# EAGLE library part SUNHAYATO-USB-CK37 (library con-sunhayato-usb)
AXR30545 Plug (Board mounting type) B type Source: http://www.panasonic-electric-works.ch/home/www/catalogues/connector/download/en_ds_65201_0000.pdf
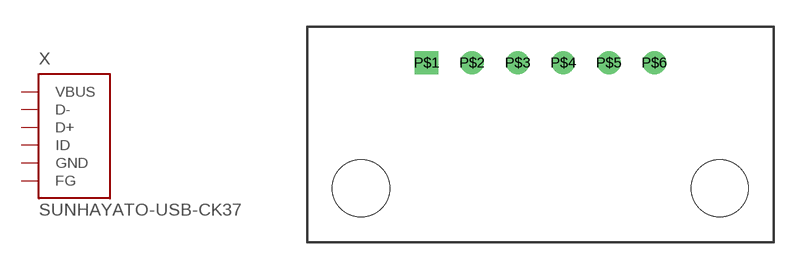
[diagram p0: symbol with the pads of SUNHAYATO-USB-CK37; footprint SUNHAYATO-USB-CK37]

Designator prefix X

## SUNHAYATO-USB-CK37 (MPN: AXR30545; OC_FARNELL: unknown; OC_NEWARK: 11N4069)  [SUNHAYATO-USB-CK37]
P$1  VBUS  in
P$2  D-  in
P$3  D+  in
P$4  ID  in
P$5  GND  in
P$6  FG  in

## Footprint SUNHAYATO-USB-CK37 (pad centres in mm)
AXR30545 Connector Source: http://www.panasonic-electric-works.ch/home/www/catalogues/connector/download/en_ds_65201_0000.pdf
drill 0.8 square: P$1 -6.35,0
drill 0.8: P$2 -3.81,0; P$3 -1.27,0; P$4 1.27,0; P$5 3.81,0; P$6 6.35,0
hole 3.2 at -10,-7
hole 3.2 at 10,-7